# Altium footprint library MOLEX.PcbLib: 6 footprints
Each footprint in its own frame and in the unit in brackets; x right, y up, seen from the top. Pads: shape width x height; smd on the part's side, far side on the other; paste and mask are expansions set on the pad; w line width, h text height; cw(c..) or ccw(c..) is an arc to the next point about the centre after c.
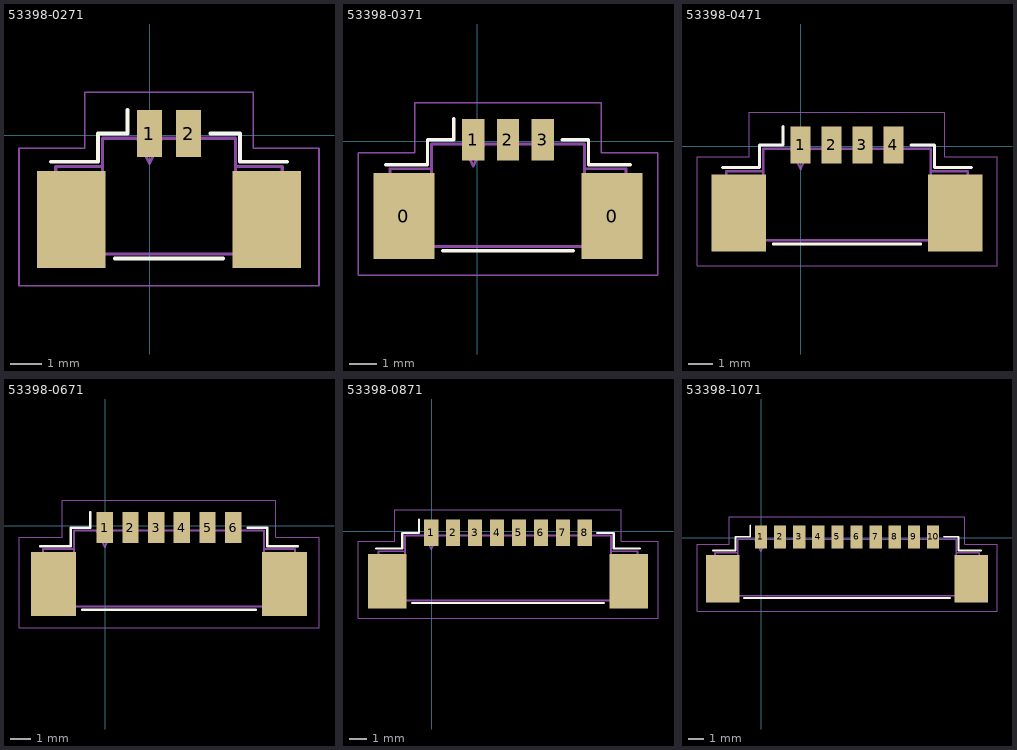
[diagram p0: the footprints below, top view; thin cyan lines are the x and y axes]

## 53398-0271 [mm]
pads (4):
  rect 0.8x1.5 smd: 1(-0.016,0.049) 2(1.234,0.049)
  rect 2.2x3.1 smd: ""(-2.516,-2.701) ""(3.734,-2.701)
Top Overlay:
  lines w0.12: -3.166,-0.851 -1.666,-0.851 -1.666,0.049 -0.716,0.049 -0.716,0.799 ; -1.116,-3.951 2.334,-3.951 ; 1.934,0.049 2.884,0.049 2.884,-0.851 4.384,-0.851
Mechanical 3:
  lines w0.05: -4.191,-4.826 0.609,-4.826 5.409,-4.826 5.409,-0.426 3.309,-0.426 3.309,1.374 0.609,1.374 -2.091,1.374 -2.091,-0.426 -4.191,-0.426 -4.191,-4.826
Mechanical 15:
  lines w0.1: -1.516,-1.001 -3.016,-1.001 -3.016,-3.801 -1.516,-3.801 ; 2.734,-1.001 4.234,-1.001 4.234,-3.801 2.734,-3.801 ; -1.516,-3.801 -1.516,-0.101 2.734,-0.101 2.734,-3.801 ; -1.516,-3.801 2.734,-3.801 ; -0.416,-0.101 -0.016,-0.901 0.384,-0.101 -0.416,-0.101
  text "REF" at -0.591,-3.326 h1
3D body: height 4.75, standoff 0.01, extent -3.19,-4.013 4.46,0.187

## 53398-0371 [mm]
pads (5):
  rect 2.2x3.1 smd: 0(-2.643,-2.701) 0(4.857,-2.701)
  rect 0.8x1.5 smd: 1(-0.143,0.049) 2(1.107,0.049) 3(2.357,0.049)
Top Overlay:
  lines w0.12: -3.293,-0.851 -1.793,-0.851 -1.793,0.049 -0.843,0.049 -0.843,0.799 ; -1.243,-3.951 3.457,-3.951 ; 3.057,0.049 4.007,0.049 4.007,-0.851 5.507,-0.851
Mechanical 3:
  lines w0.05: -4.293,-4.826 1.107,-4.826 6.507,-4.826 6.507,-0.426 4.457,-0.426 4.457,1.374 1.107,1.374 -2.243,1.374 -2.243,-0.426 -4.293,-0.426 -4.293,-4.826
Mechanical 15:
  lines w0.1: -1.643,-1.001 -3.143,-1.001 -3.143,-3.801 -1.643,-3.801 ; 3.857,-1.001 5.357,-1.001 5.357,-3.801 3.857,-3.801 ; -1.643,-3.801 -1.643,-0.101 3.857,-0.101 3.857,-3.801 ; -1.643,-3.801 3.857,-3.801 ; -0.543,-0.101 -0.143,-0.901 0.257,-0.101 -0.543,-0.101
  text "REF" at -0.093,-3.326 h1
3D body: height 4.76, standoff 0.02, extent -3.307,-3.886 5.593,0.314

## 53398-0471 [mm]
pads (6):
  rect 0.8x1.5 smd: 1(-0.016,0.049) 2(1.234,0.049) 3(2.484,0.049) 4(3.734,0.049)
  rect 2.2x3.1 smd: ""(-2.516,-2.701) ""(6.234,-2.701)
Top Overlay:
  lines w0.12: -3.166,-0.851 -1.666,-0.851 -1.666,0.049 -0.716,0.049 -0.716,0.799 ; -1.116,-3.951 4.834,-3.951 ; 4.434,0.049 5.384,0.049 5.384,-0.851 6.884,-0.851
Mechanical 3:
  lines w0.05: -4.191,-4.826 -4.191,-0.426 -2.091,-0.426 -2.091,1.374 1.859,1.374 5.809,1.374 5.809,-0.426 7.909,-0.426 7.909,-4.826 1.859,-4.826 -4.191,-4.826
Mechanical 15:
  lines w0.1: -1.516,-1.001 -3.016,-1.001 -3.016,-3.801 -1.516,-3.801 ; 5.234,-1.001 6.734,-1.001 6.734,-3.801 5.234,-3.801 ; -1.516,-3.801 5.234,-3.801 ; -1.516,-3.801 -1.516,-0.101 5.234,-0.101 5.234,-3.801 ; -0.416,-0.101 0.384,-0.101 -0.016,-0.901 -0.416,-0.101
  text "REF" at 0.659,-3.326 h1
3D body: height 4.77, standoff 0.03, extent -3.17,-3.886 6.98,0.314

## 53398-0671 [mm]
pads (8):
  rect 0.8x1.5 smd: 1(-0.016,-0.078) 2(1.234,-0.078) 3(2.484,-0.078) 4(3.734,-0.078) 5(4.984,-0.078) 6(6.234,-0.078)
  rect 2.2x3.1 smd: ""(-2.516,-2.828) ""(8.734,-2.828)
Top Overlay:
  lines w0.12: -3.166,-0.978 -1.666,-0.978 -1.666,-0.078 -0.716,-0.078 -0.716,0.672 ; -1.116,-4.078 7.334,-4.078 ; 6.934,-0.078 7.884,-0.078 7.884,-0.978 9.384,-0.978
Mechanical 3:
  lines w0.05: -4.191,-4.953 -4.191,-0.553 -2.091,-0.553 -2.091,1.247 3.109,1.247 8.309,1.247 8.309,-0.553 10.409,-0.553 10.409,-4.953 3.109,-4.953 -4.191,-4.953
Mechanical 15:
  lines w0.1: -1.516,-1.128 -3.016,-1.128 -3.016,-3.928 -1.516,-3.928 ; 7.734,-1.128 9.234,-1.128 9.234,-3.928 7.734,-3.928 ; -1.516,-3.928 7.734,-3.928 ; -1.516,-3.928 -1.516,-0.228 7.734,-0.228 7.734,-3.928 ; -0.416,-0.228 0.384,-0.228 -0.016,-1.028 -0.416,-0.228
  text "REF" at 1.909,-3.453 h1
3D body: height 4.77, standoff 0.03, extent -3.15,-4.013 9.5,0.187

## 53398-0871 [mm]
pads (10):
  rect 0.8x1.5 smd: 1(-0.016,-0.078) 2(1.234,-0.078) 3(2.484,-0.078) 4(3.734,-0.078) 5(4.984,-0.078) 6(6.234,-0.078) 7(7.484,-0.078) 8(8.734,-0.078)
  rect 2.2x3.1 smd: ""(-2.516,-2.828) ""(11.234,-2.828)
Top Overlay:
  lines w0.12: -3.166,-0.978 -1.666,-0.978 -1.666,-0.078 -0.716,-0.078 -0.716,0.672 ; -1.116,-4.078 9.834,-4.078 ; 9.434,-0.078 10.384,-0.078 10.384,-0.978 11.884,-0.978
Mechanical 3:
  lines w0.05: -4.191,-4.953 -4.191,-0.553 -2.091,-0.553 -2.091,1.247 4.359,1.247 10.809,1.247 10.809,-0.553 12.909,-0.553 12.909,-4.953 4.359,-4.953 -4.191,-4.953
Mechanical 15:
  lines w0.1: -1.516,-1.128 -3.016,-1.128 -3.016,-3.928 -1.516,-3.928 ; 10.234,-1.128 11.734,-1.128 11.734,-3.928 10.234,-3.928 ; -1.516,-3.928 10.234,-3.928 ; -1.516,-3.928 -1.516,-0.228 10.234,-0.228 10.234,-3.928 ; -0.416,-0.228 0.384,-0.228 -0.016,-1.028 -0.416,-0.228
  text "REF" at 3.159,-3.453 h1
3D body: height 4.77, standoff 0.03, extent -3.175,-3.878 11.975,0.322

## 53398-1071 [mm]
pads (12):
  rect 0.8x1.5 smd: 1(-0.016,0.049) 2(1.234,0.049) 3(2.484,0.049) 4(3.734,0.049) 5(4.984,0.049) 6(6.234,0.049) 7(7.484,0.049) 8(8.734,0.049) 9(9.984,0.049) 10(11.234,0.049)
  rect 2.2x3.1 smd: ""(-2.516,-2.701) ""(13.734,-2.701)
Top Overlay:
  lines w0.12: -3.166,-0.851 -1.666,-0.851 -1.666,0.049 -0.716,0.049 -0.716,0.799 ; -1.116,-3.951 12.334,-3.951 ; 11.934,0.049 12.884,0.049 12.884,-0.851 14.384,-0.851
Mechanical 3:
  lines w0.05: -4.191,-4.826 -4.191,-0.426 -2.091,-0.426 -2.091,1.374 5.609,1.374 13.309,1.374 13.309,-0.426 15.409,-0.426 15.409,-4.826 5.609,-4.826 -4.191,-4.826
Mechanical 15:
  lines w0.1: -1.516,-1.001 -3.016,-1.001 -3.016,-3.801 -1.516,-3.801 ; 12.734,-1.001 14.234,-1.001 14.234,-3.801 12.734,-3.801 ; -1.516,-3.801 12.734,-3.801 ; -1.516,-3.801 -1.516,-0.101 12.734,-0.101 12.734,-3.801 ; -0.416,-0.101 0.384,-0.101 -0.016,-0.901 -0.416,-0.101
  text "REF" at 4.409,-3.326 h1
3D body: height 4.77, standoff 0.03, extent -3.237,-3.759 14.413,0.441